# Altium schematic symbol library SamacSys.SchLib: 215 symbols (part 2 of 3)
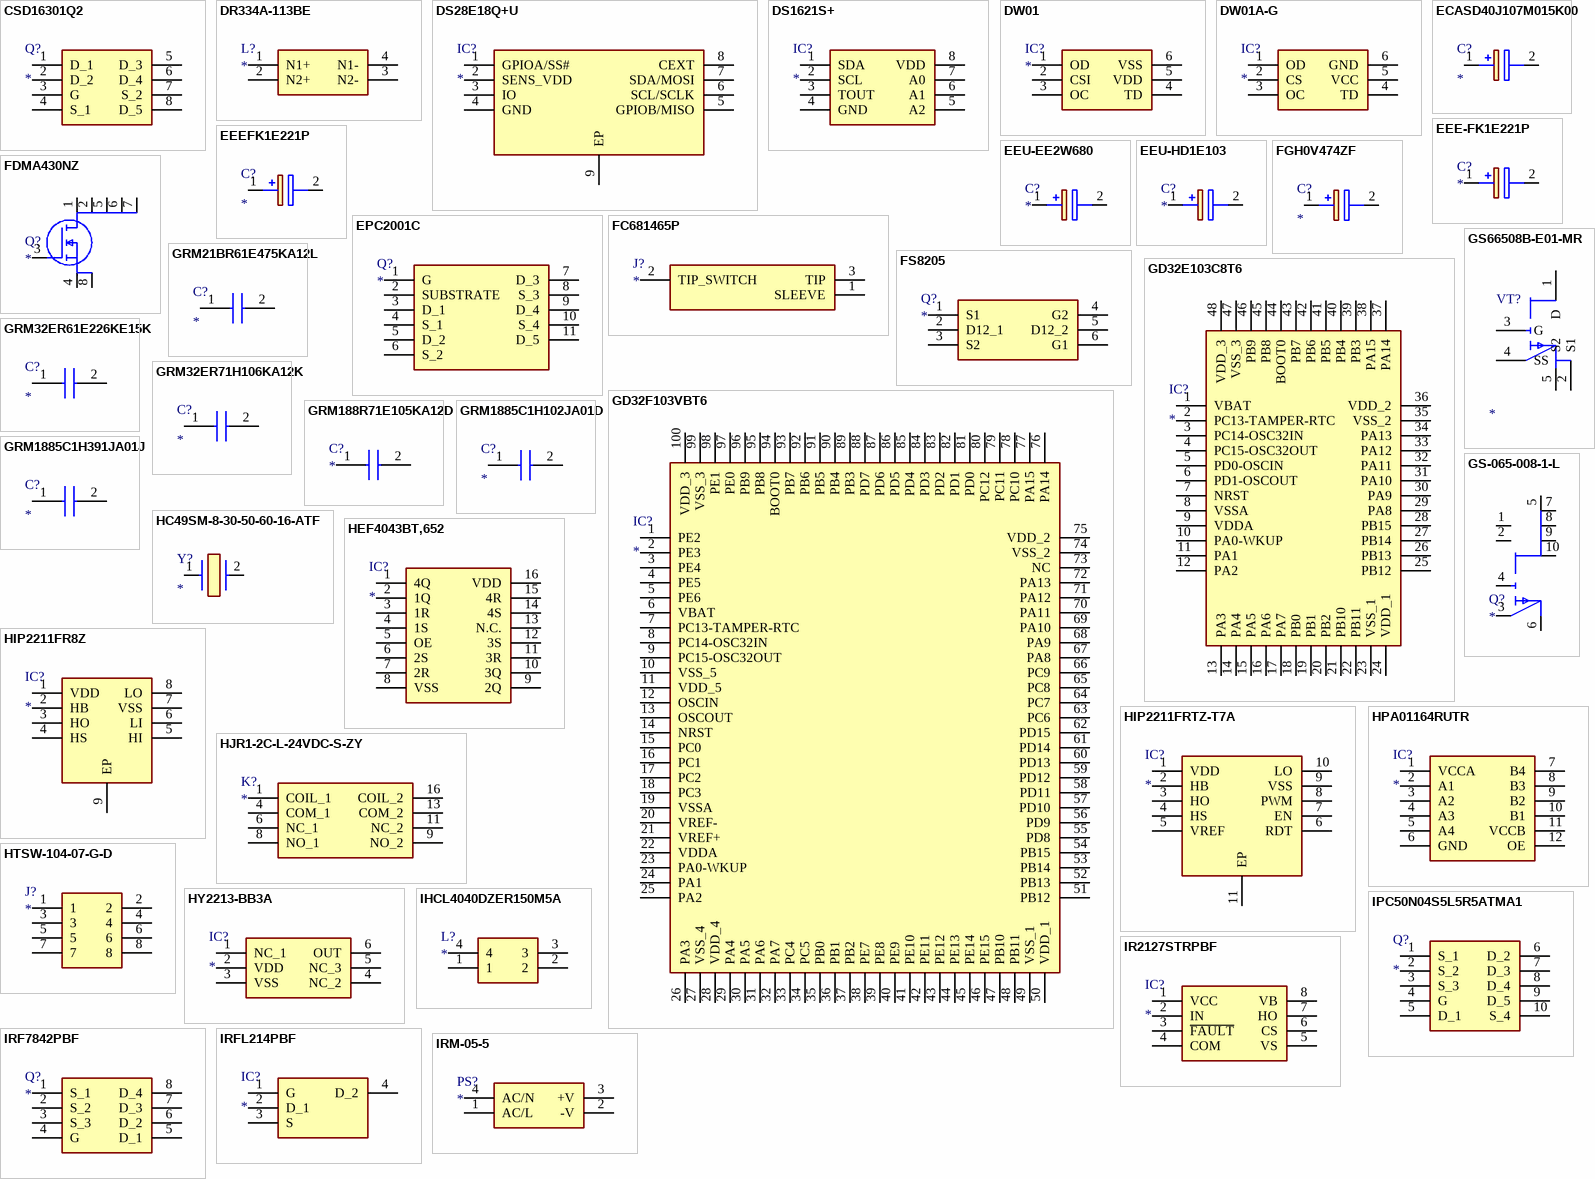
[diagram p6: symbols CSD16301Q2 to IRM-05-5]

## GRM32ER61E226KE15K
designator C?
Capacitor; Manufacturer_Name: Murata Electronics; Manufacturer_Part_Number: GRM32ER61E226KE15K; Datasheet Link: https://datasheet.datasheetarchive.com/originals/distributors/Datasheets_SAMA/ec4f1577dddcc7a13ddad897a28002d3.pdf; Height: 2.7mm; Mouser Part Number: 81-GRM32ER61E226KE5K; Mouser Price/Stock: https://www.mouser.com/Search/Refine.aspx?Keyword=81-GRM32ER61E226KE5K; Arrow Part Number: GRM32ER61E226KE15K; Arrow Price/Stock: https://www.arrow.com/en/products/grm32er61e226ke15k/murata-manufacturing
footprint CAPC3225X270N
pins: 1, 2

## GRM32ER71H106KA12K
designator C?
Capacitor; Manufacturer_Name: Murata Electronics; Manufacturer_Part_Number: GRM32ER71H106KA12K; Height: 2.7mm; Mouser Part Number: N/A; Mouser Price/Stock: https://www.mouser.com/Search/Refine.aspx?Keyword=N%2FA; Arrow Part Number: GRM32ER71H106KA12K; Arrow Price/Stock: https://www.arrow.com/en/products/grm32er71h106ka12k/murata-manufacturing
footprint CAPC3225X270N
pins: 1, 2

## GRM188R71E105KA12D
designator C?
Capacitor; Manufacturer_Name: Murata Electronics; Manufacturer_Part_Number: GRM188R71E105KA12D; Datasheet Link: https://datasheet.datasheetarchive.com/originals/distributors/Datasheets_SAMA/ec4f1577dddcc7a13ddad897a28002d3.pdf; Height: 0.9mm; Mouser Part Number: 81-GRM188R71E105KA2D; Mouser Price/Stock: https://www.mouser.co.uk/ProductDetail/Murata-Electronics/GRM188R71E105KA12D?qs=62qOe8%2Fl8sHaxJyNXtrK%2FQ%3D%3D; Arrow Part Number: GRM188R71E105KA12D; Arrow Price/Stock: https://www.arrow.com/en/products/grm188r71e105ka12d/murata-manufacturing
footprint CAPC1608X90N
pins: 1, 2

## GRM1885C1H102JA01D
designator C?
Capacitor; Manufacturer_Name: Murata Electronics; Manufacturer_Part_Number: GRM1885C1H102JA01D; Datasheet Link: https://psearch.en.murata.com/capacitor/product/GRM1885C1H102JA01%23.html; Height: 0.9mm; Mouser Part Number: 81-GRM39C102J50; Mouser Price/Stock: https://www.mouser.co.uk/ProductDetail/Murata-Electronics/GRM1885C1H102JA01D?qs=H3lwsW1hsDtu9zD8AnV%2FOA%3D%3D; Arrow Part Number: GRM1885C1H102JA01D; Arrow Price/Stock: https://www.arrow.com/en/products/grm1885c1h102ja01d/murata-manufacturing?region=europe
footprint CAPC1608X90N
pins: 1, 2

## GRM1885C1H391JA01J
designator C?
Capacitor; Manufacturer_Name: Murata Electronics; Manufacturer_Part_Number: GRM1885C1H391JA01J; Datasheet Link: https://datasheet.datasheetarchive.com/originals/distributors/Datasheets_SAMA/2201e1ea9d030694a4f88bac2f694b62.pdf; Height: 0.9mm; Mouser Part Number: 81-GRM185C1H391JA01J; Mouser Price/Stock: https://www.mouser.com/Search/Refine.aspx?Keyword=81-GRM185C1H391JA01J; Arrow Part Number: GRM1885C1H391JA01J; Arrow Price/Stock: https://www.arrow.com/en/products/grm1885c1h391ja01j/murata-manufacturing
footprint CAPC1608X90N
pins: 1, 2

## GS66508B-E01-MR
designator VT?
Transistor E-mode GaN (4-Pin); Manufacturer_Name: GaN Systems; Manufacturer_Part_Number: GS66508B-E01-MR; Datasheet Link: https://www.mouser.co.uk/datasheet/2/692/GS66508B-DS-Rev-180213-1314152.pdf; Mouser Part Number: 499-GS66508B-E01-MR; Mouser Price/Stock: https://www.mouser.co.uk/ProductDetail/GaN-Systems/GS66508B-E01-MR?qs=etoTMWSvtH88Sj8NJfVvjg%3D%3D
footprint GS66508BE01MR
pins: 1 D, 2 S1, 3 G, 4 SS, 5 S2

## GS-065-008-1-L
designator Q?
Transistor E-mode GaN (10-Pin); Manufacturer_Name: GaN Systems; Manufacturer_Part_Number: GS-065-008-1-L; Datasheet Link: https://gansystems.com/wp-content/uploads/2021/12/GS-065-008-1-L-DS-Rev-210104.pdf; Mouser Part Number: 499-GS-065-008-1-L; Mouser Price/Stock: https://www.mouser.co.uk/ProductDetail/GaN-Systems/GS-065-008-1-L?qs=2WXlatMagcF2TIzlh%2FwoDw%3D%3D
footprint GS0650081L
pins: 1 NC1, 2 NC2, 3 SS, 4 G, 5 D1, 6 S, 7 D2, 8 D3, 9 D4, 10 D5

## HC49SM-8-30-50-60-16-ATF
designator Y?
Crystal or Oscillator; Manufacturer_Name: MULTICOMP; Manufacturer_Part_Number: HC49SM-8-30-50-60-16-ATF; Datasheet Link: http://www.farnell.com/datasheets/1661828.pdf; Height: 4mm
footprint HC49SM830506016ATF
pins: 1, 2

## HEF4043BT,652
designator IC?
Integrated Circuit; Manufacturer_Name: Nexperia; Manufacturer_Part_Number: HEF4043BT,652; Datasheet Link: https://assets.nexperia.com/documents/data-sheet/HEF4043B.pdf; Height: 1.75mm; Mouser Part Number: 771-HEF4043BT652; Mouser Price/Stock: https://www.mouser.com/Search/Refine.aspx?Keyword=771-HEF4043BT652; Arrow Part Number: HEF4043BT,652; Arrow Price/Stock: https://www.arrow.com/en/products/hef4043bt652/nexperia
footprint SOIC127P600X175-16N
pins: 1 4Q, 2 1Q, 3 1R, 4 1S, 5 OE, 6 2S, 7 2R, 8 VSS, 9 2Q, 10 3Q, 11 3R, 12 3S, 13 N.C., 14 4S, 15 4R, 16 VDD

## HIP2211FR8Z
designator IC?
Integrated Circuit; Manufacturer_Name: Renesas Electronics; Manufacturer_Part_Number: HIP2211FR8Z; Datasheet Link: https://www.renesas.com/us/en/www/doc/datasheet/hip2210-211.pdf; Height: 1mm
footprint SON80P400X400X100-9N
pins: 1 VDD, 2 HB, 3 HO, 4 HS, 5 HI, 6 LI, 7 VSS, 8 LO, 9 EP

## HIP2211FRTZ-T7A
designator IC?
Integrated Circuit; Manufacturer_Name: Renesas Electronics; Manufacturer_Part_Number: HIP2211FRTZ-T7A; Datasheet Link: https://www.renesas.com/us/en/www/doc/datasheet/hip2210-211.pdf; Height: 0.8mm; Mouser Part Number: 968-HIP2211FRTZ-T7A; Mouser Price/Stock: https://www.mouser.co.uk/ProductDetail/Renesas-Intersil/HIP2211FRTZ-T7A/?qs=GedFDFLaBXHyCbSCbcLlDw%3D%3D
footprint SON80P400X400X80-11N
pins: 1 VDD, 2 HB, 3 HO, 4 HS, 5 VREF, 6 RDT, 7 EN, 8 PWM, 9 VSS, 10 LO, 11 EP

## HJR1-2C-L-24VDC-S-ZY
designator K?
Relay or Contactor; Manufacturer_Name: TBO Electronics; Manufacturer_Part_Number: HJR1-2C-L-24VDC-S-ZY; Datasheet Link: https://cdn.ozdisan.com/ETicaret_Dosya/348819_9221222.pdf; Height: 11.8mm
footprint HJR12CL24VDCSZY
pins: 1 COIL_1, 4 COM_1, 6 NC_1, 8 NO_1, 9 NO_2, 11 NC_2, 13 COM_2, 16 COIL_2

## HPA01164RUTR
designator IC?
Integrated Circuit; Manufacturer_Name: Texas Instruments; Manufacturer_Part_Number: HPA01164RUTR; Datasheet Link: http://www.ti.com/lit/ds/symlink/txb0104.pdf; Mouser Part Number: 595-HPA01164RUTR; Mouser Price/Stock: https://www.mouser.com/Search/Refine.aspx?Keyword=595-HPA01164RUTR
footprint HPA01164RUTR
pins: 1 VCCA, 2 A1, 3 A2, 4 A3, 5 A4, 6 GND, 7 B4, 8 B3, 9 B2, 10 B1, 11 VCCB, 12 OE

## HTSW-104-07-G-D
designator J?
Connector; Manufacturer_Name: SAMTEC; Manufacturer_Part_Number: HTSW-104-07-G-D; Datasheet Link: https://componentsearchengine.com/Datasheets/2/HTSW-104-07-G-D.pdf; Height: 8.38mm; Mouser Part Number: 200-HTSW10407GD; Mouser Price/Stock: https://www.mouser.co.uk/ProductDetail/Samtec/HTSW-104-07-G-D?qs=rJnG6vTwR7TyxNcNvyPfLw%3D%3D; Arrow Part Number: HTSW-104-07-G-D; Arrow Price/Stock: https://www.arrow.com/en/products/htsw-104-07-g-d/samtec
footprint HDRV8W64P254_2X4_1016X502X838P
pins: 1, 2, 3, 4, 5, 6, 7, 8

## HY2213-BB3A
designator IC?
Integrated Circuit; Manufacturer_Name: Hycon; Manufacturer_Part_Number: HY2213-BB3A; Datasheet Link: https://datasheet.lcsc.com/szlcsc/HYCON-Tech-HY2213-BB3A_C113632.pdf; Height: 1.4mm
footprint SOT95P280X140-6N
pins: 1 NC_1, 2 VDD, 3 VSS, 4 NC_2, 5 NC_3, 6 OUT

## IHCL4040DZER150M5A
designator L?
Inductor; Manufacturer_Name: Vishay; Manufacturer_Part_Number: IHCL4040DZER150M5A; Datasheet Link: https://componentsearchengine.com/Datasheets/2/IHCL4040DZER150M5A.pdf; Height: 4mm; Mouser Part Number: 71-IHCL4040DZR150M5A; Mouser Price/Stock: https://www.mouser.co.uk/ProductDetail/Vishay-Dale/IHCL4040DZER150M5A?qs=qolwYojYp3SrrzuOoMhJcw%3D%3D; Arrow Part Number: IHCL4040DZER150M5A; Arrow Price/Stock: https://www.arrow.com/en/products/ihcl4040dzer150m5a/vishay
footprint IHCL4040DZER150M5A
pins: 1, 2, 3, 4

## IPC50N04S5L5R5ATMA1
designator Q?
MOSFET (N-Channel); Manufacturer_Name: Infineon; Manufacturer_Part_Number: IPC50N04S5L5R5ATMA1; Datasheet Link: https://www.infineon.com/dgdl/Infineon-IPC50N04S5L-5R5-DS-v01_02-EN.pdf?fileId=5546d46253f65057015419c26dd952ec; Height: 1.1mm; Mouser Part Number: 726-IPC50N04S5L5R5AT; Mouser Price/Stock: https://www.mouser.co.uk/ProductDetail/Infineon-Technologies/IPC50N04S5L5R5ATMA1?qs=Qyx3PVvfm66xhihdkFw%2FPg%3D%3D; Arrow Part Number: IPC50N04S5L5R5ATMA1; Arrow Price/Stock: https://www.arrow.com/en/products/ipc50n04s5l5r5atma1/infineon-technologies-ag
footprint IPC50N04S5L5R5ATMA1
pins: 1 S_1, 2 S_2, 3 S_3, 4 G, 5 D_1, 6 D_2, 7 D_3, 8 D_4, 9 D_5, 10 S_4

## IR2127STRPBF
designator IC?
Integrated Circuit; Manufacturer_Name: Infineon; Manufacturer_Part_Number: IR2127STRPBF; Datasheet Link: https://www.infineon.com/dgdl/Infineon-ir2127-DS-v01_00-EN.pdf?fileId=5546d462533600a4015355c868861696; Height: 1.75mm; Mouser Part Number: 942-IR2127STRPBF; Mouser Price/Stock: https://www.mouser.co.uk/ProductDetail/Infineon-IR/IR2127STRPBF?qs=dQmlx5f5cRI1zkUThsIMgA%3D%3D; Arrow Part Number: IR2127STRPBF; Arrow Price/Stock: https://www.arrow.com/en/products/ir2127strpbf/infineon-technologies-ag?region=europe
footprint SOIC127P600X175-8N
pins: 1 VCC, 2 IN, 3 ~{FAULT}, 4 COM, 5 VS, 6 CS, 7 HO, 8 VB

## IRF7842PBF
designator Q?
Transistor; Manufacturer_Name: Infineon; Manufacturer_Part_Number: IRF7842PBF; Datasheet Link: https://componentsearchengine.com/Datasheets/2/IRF7842PBF.pdf; Height: 1.75mm; Mouser Part Number: 942-IRF7842PBF; Mouser Price/Stock: https://www.mouser.com/Search/Refine.aspx?Keyword=942-IRF7842PBF; Arrow Part Number: IRF7842PBF; Arrow Price/Stock: https://www.arrow.com/en/products/irf7842pbf/infineon-technologies-ag
footprint SOIC127P600X175-8N
pins: 1 S_1, 2 S_2, 3 S_3, 4 G, 5 D_1, 6 D_2, 7 D_3, 8 D_4

## IRFL214PBF
designator IC?
Integrated Circuit; Manufacturer_Name: Vishay; Manufacturer_Part_Number: IRFL214PBF; Datasheet Link: http://www.vishay.com/docs/91194/sihfl214.pdf; Height: 1.8mm; Mouser Part Number: 844-IRFL214PBF; Mouser Price/Stock: https://www.mouser.com/Search/Refine.aspx?Keyword=844-IRFL214PBF
footprint SOT230P700X180-4N
pins: 1 G, 2 D_1, 3 S, 4 D_2

## IRM-05-5
designator PS?
Power Supply; Manufacturer_Name: Mean Well; Manufacturer_Part_Number: IRM-05-5; Datasheet Link: https://www.mouser.fr/datasheet/2/260/r1936_3-1109422.pdf; Height: 21.5mm; Mouser Part Number: 709-IRM05-5; Mouser Price/Stock: https://www.mouser.co.uk/ProductDetail/MEAN-WELL/IRM-05-5?qs=WkdRfq4wf1OdYoHS8Am9VA%3D%3D; Arrow Part Number: IRM-05-5; Arrow Price/Stock: https://www.arrow.com/en/products/irm-05-5/mean-well-enterprises?region=europe
footprint IRM055
pins: 1 AC/L, 2 -V, 3 +V, 4 AC/N

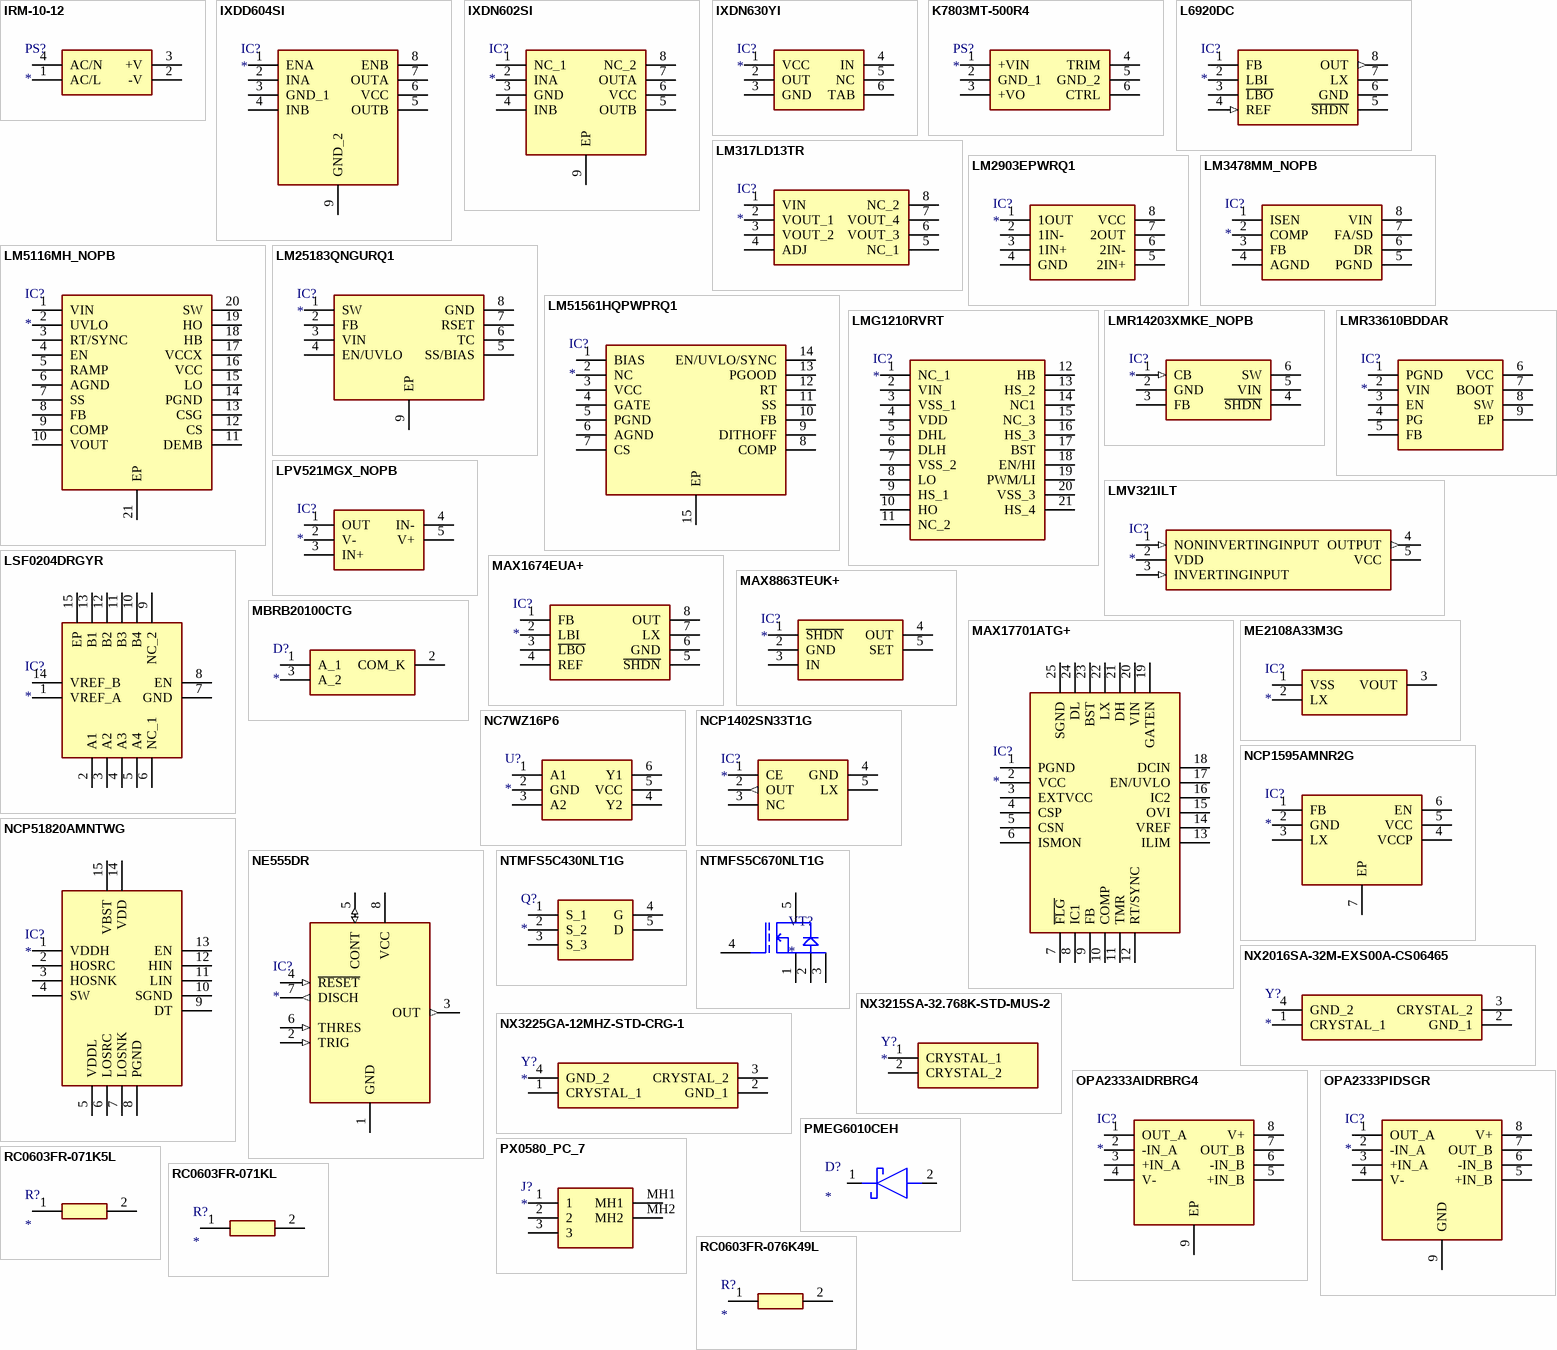
[diagram p3: symbols IRM-10-12 to RC0603FR-076K49L]

## IRM-10-12
designator PS?
Power Supply; Manufacturer_Name: Mean Well; Manufacturer_Part_Number: IRM-10-12; Datasheet Link: https://www.meanwellusa.com/webapp/product/search.aspx?prod=IRM-10; Mouser Part Number: 709-IRM10-12; Mouser Price/Stock: https://www.mouser.co.uk/ProductDetail/MEAN-WELL/IRM-10-12?qs=WkdRfq4wf1Mps3oD7xn11w%3D%3D; Arrow Part Number: IRM-10-12; Arrow Price/Stock: https://www.arrow.com/en/products/irm-10-12/mean-well-enterprises?region=europe
footprint IRM-10
pins: 1 AC/L, 2 -V, 3 +V, 4 AC/N

## IXDD604SI
designator IC?
Integrated Circuit; Manufacturer_Name: LITTELFUSE; Manufacturer_Part_Number: IXDD604SI; Datasheet Link: http://www.ixysic.com/home/pdfs.nsf/www/IXD_604.pdf/$file/IXD_604.pdf; Height: 1.7mm; Mouser Part Number: 849-IXDD604SI; Mouser Price/Stock: https://www.mouser.co.uk/ProductDetail/IXYS-Integrated-Circuits/IXDD604SI?qs=RF%252Bx3zajg8Jsl1%252BOkSun%252BQ%3D%3D; Arrow Part Number: IXDD604SI; Arrow Price/Stock: https://www.arrow.com/en/products/ixdd604si/littelfuse?region=nac
footprint SOIC127P600X170-9N
pins: 1 ENA, 2 INA, 3 GND_1, 4 INB, 5 OUTB, 6 VCC, 7 OUTA, 8 ENB, 9 GND_2

## IXDN602SI
designator IC?
Integrated Circuit; Manufacturer_Name: IXYS SEMICONDUCTOR; Manufacturer_Part_Number: IXDN602SI; Datasheet Link: http://www.ixysic.com/home/pdfs.nsf/www/IXD_602.pdf/$file/IXD_602.pdf; Height: 1.422mm; Mouser Part Number: 849-IXDN602SI; Mouser Price/Stock: https://www.mouser.co.uk/ProductDetail/IXYS-Integrated-Circuits/IXDN602SI?qs=8uBHJDVwVqxXUMGEn1skDg%3D%3D; Arrow Part Number: IXDN602SI; Arrow Price/Stock: https://www.arrow.com/en/products/ixdn602si/ixys
footprint SOP140P599X142-9N
pins: 1 NC_1, 2 INA, 3 GND, 4 INB, 5 OUTB, 6 VCC, 7 OUTA, 8 NC_2, 9 EP

## IXDN630YI
designator IC?
Integrated Circuit; Manufacturer_Name: IXYS SEMICONDUCTOR; Manufacturer_Part_Number: IXDN630YI; Datasheet Link: https://www.mouser.com/datasheet/2/240/IXD_630-1545995.pdf; Mouser Part Number: 849-IXDN630YI; Mouser Price/Stock: https://www.mouser.co.uk/ProductDetail/IXYS-Integrated-Circuits/IXDN630YI?qs=uhAJVUz%252BE3%2FH75bq1SGVng%3D%3D; Arrow Part Number: IXDN630YI; Arrow Price/Stock: https://www.arrow.com/en/products/ixdn630yi/ixys
footprint 5-LEAD_TO-263
pins: 1 VCC, 2 OUT, 3 GND, 4 IN, 5 NC, 6 TAB

## K7803MT-500R4
designator PS?
Power Supply; Manufacturer_Name: Mornsun Power; Manufacturer_Part_Number: K7803MT-500R4; Datasheet Link: https://www.mornsun-power.com/html/pdf/K7803MT-500R4.html; Height: 3.35mm
footprint K7803MT500R4
pins: 1 +VIN, 2 GND_1, 3 +VO, 4 TRIM, 5 GND_2, 6 CTRL

## L6920DC
designator IC?
Integrated Circuit; Manufacturer_Name: STMicroelectronics; Manufacturer_Part_Number: L6920DC; Datasheet Link: http://www.st.com/st-web-ui/static/active/en/resource/technical/document/datasheet/CD00120294.pdf; Height: 1.1mm; Mouser Part Number: 511-L6920DC; Mouser Price/Stock: https://www.mouser.com/Search/Refine.aspx?Keyword=511-L6920DC
footprint SOP65P490X110-8N
pins: 1 FB, 2 LBI, 3 ~{LBO}, 4 REF (in), 5 ~{SHDN}, 6 GND (power), 7 LX, 8 OUT (out)

## LM317LD13TR
designator IC?
Integrated Circuit; Manufacturer_Name: STMicroelectronics; Manufacturer_Part_Number: LM317LD13TR; Datasheet Link: http://www.st.com/st-web-ui/static/active/en/resource/technical/document/datasheet/CD00000469.pdf; Height: 1.75mm; Mouser Part Number: 511-LM317LD13TR; Mouser Price/Stock: https://www.mouser.co.uk/ProductDetail/STMicroelectronics/LM317LD13TR?qs=01cQMEOqxGSoMXHqAObrAA%3D%3D; Arrow Part Number: LM317LD13TR; Arrow Price/Stock: https://www.arrow.com/en/products/lm317ld13tr/stmicroelectronics
footprint SOIC127P600X175-8N
pins: 1 VIN, 2 VOUT_1, 3 VOUT_2, 4 ADJ, 5 NC_1, 6 VOUT_3, 7 VOUT_4, 8 NC_2

## LM2903EPWRQ1
designator IC?
Integrated Circuit; Manufacturer_Name: Texas Instruments; Manufacturer_Part_Number: LM2903EPWRQ1; Datasheet Link: http://www.ti.com/lit/gpn/LM2903-Q1; Height: 1.2mm; Mouser Part Number: 595-LM2903EPWRQ1; Mouser Price/Stock: https://www.mouser.co.uk/ProductDetail/Texas-Instruments/LM2903EPWRQ1?qs=gTYE2QTfZfSOOljfli3%2Fvg%3D%3D; Arrow Part Number: LM2903EPWRQ1; Arrow Price/Stock: https://www.arrow.com/en/products/lm2903epwrq1/texas-instruments
footprint SOP65P640X120-8N
pins: 1 1OUT, 2 1IN-, 3 1IN+, 4 GND, 5 2IN+, 6 2IN-, 7 2OUT, 8 VCC

## LM3478MM_NOPB
designator IC?
Integrated Circuit; Manufacturer_Name: Texas Instruments; Manufacturer_Part_Number: LM3478MM/NOPB; Datasheet Link: http://www.ti.com/lit/ds/symlink/lm3478.pdf; Height: 1.1mm; Mouser Part Number: 926-LM3478MM/NOPB; Mouser Price/Stock: https://www.mouser.co.uk/ProductDetail/Texas-Instruments/LM3478MM-NOPB?qs=X1J7HmVL2ZFZ9Nx5j0bAJQ%3D%3D; Arrow Part Number: LM3478MM/NOPB; Arrow Price/Stock: https://www.arrow.com/en/products/lm3478mmnopb/texas-instruments?region=nac
footprint SOP65P490X110-8N
pins: 1 ISEN, 2 COMP, 3 FB, 4 AGND, 5 PGND, 6 DR, 7 FA/SD, 8 VIN

## LM5116MH_NOPB
designator IC?
Integrated Circuit; Manufacturer_Name: Texas Instruments; Manufacturer_Part_Number: LM5116MH/NOPB; Datasheet Link: http://www.ti.com/lit/ds/symlink/lm5116.pdf; Height: 1.1mm; Mouser Part Number: 926-LM5116MH/NOPB; Mouser Price/Stock: https://www.mouser.co.uk/ProductDetail/Texas-Instruments/LM5116MH-NOPB?qs=QbsRYf82W3Gc%2FVeEKgyaCw%3D%3D; Arrow Part Number: LM5116MH/NOPB; Arrow Price/Stock: https://www.arrow.com/en/products/lm5116mhnopb/texas-instruments?region=nac
footprint SOP65P640X110-21N
pins: 1 VIN, 2 UVLO, 3 RT/SYNC, 4 EN, 5 RAMP, 6 AGND, 7 SS, 8 FB, 9 COMP, 10 VOUT, 11 DEMB, 12 CS, 13 CSG, 14 PGND, 15 LO, 16 VCC, 17 VCCX, 18 HB, 19 HO, 20 SW, 21 EP

## LM25183QNGURQ1
designator IC?
Integrated Circuit; Manufacturer_Name: Texas Instruments; Manufacturer_Part_Number: LM25183QNGURQ1; Datasheet Link: https://www.ti.com/lit/ds/symlink/lm25183-q1.pdf?ts=1601923557129&ref_url=https%253A%252F%252Fwww.ti.com%252Fstore%252Fti%252Fen%252Fp%252Fproduct%252F%253Fp%253DLM25183QNGURQ1%2526keyMatch%253DLM25183QNGURQ1%2526tisearch%253DSearch-EN-everything%2526usec; Height: 0.8mm; Mouser Part Number: 595-LM25183QNGURQ1; Mouser Price/Stock: https://www.mouser.co.uk/ProductDetail/Texas-Instruments/LM25183QNGURQ1?qs=DPoM0jnrROXQGqS1LtP5UA%3D%3D
footprint SON80P400X400X80-9N
pins: 1 SW, 2 FB, 3 VIN, 4 EN/UVLO, 5 SS/BIAS, 6 TC, 7 RSET, 8 GND, 9 EP

## LM51561HQPWPRQ1
designator IC?
Integrated Circuit; Manufacturer_Name: Texas Instruments; Manufacturer_Part_Number: LM51561HQPWPRQ1; Datasheet Link: https://www.ti.com/lit/ds/symlink/lm51561h-q1.pdf?ts=1627804553819&ref_url=https%253A%252F%252Fwww.ti.com%252Fstore%252Fti%252Fen%252Fp%252Fproduct%252F%253Fp%253DLM51561HQPWPRQ1; Height: 1.2mm; Mouser Part Number: 595-LM51561HQPWPRQ1; Mouser Price/Stock: https://www.mouser.co.uk/ProductDetail/Texas-Instruments/LM51561HQPWPRQ1?qs=zW32dvEIR3vSrITqODfvSg%3D%3D; Arrow Part Number: LM51561HQPWPRQ1; Arrow Price/Stock: https://www.arrow.com/en/products/lm51561hqpwprq1/texas-instruments?region=nac
footprint SOP65P640X120-15N
pins: 1 BIAS, 2 NC, 3 VCC, 4 GATE, 5 PGND, 6 AGND, 7 CS, 8 COMP, 9 DITHOFF, 10 FB, 11 SS, 12 RT, 13 PGOOD, 14 EN/UVLO/SYNC, 15 EP

## LMG1210RVRT
designator IC?
Integrated Circuit; Manufacturer_Name: Texas Instruments; Manufacturer_Part_Number: LMG1210RVRT; Datasheet Link: http://www.ti.com/lit/gpn/LMG1210; Height: 0.8mm; Mouser Part Number: 595-LMG1210RVRT; Mouser Price/Stock: https://www.mouser.co.uk/ProductDetail/Texas-Instruments/LMG1210RVRT?qs=r5DSvlrkXmKq4J8w4KI4bg%3D%3D; Arrow Part Number: LMG1210RVRT; Arrow Price/Stock: https://www.arrow.com/en/products/lmg1210rvrt/texas-instruments?region=nac
footprint LMG1210RVRT
pins: 1 NC_1, 2 VIN, 3 VSS_1, 4 VDD, 5 DHL, 6 DLH, 7 VSS_2, 8 LO, 9 HS_1, 10 HO, 11 NC_2, 12 HB, 13 HS_2, 14 NC1, 15 NC_3, 16 HS_3, 17 BST, 18 EN/HI, 19 PWM/LI, 20 VSS_3, 21 HS_4

## LMR14203XMKE_NOPB
designator IC?
Integrated Circuit; Manufacturer_Name: Texas Instruments; Manufacturer_Part_Number: LMR14203XMKE/NOPB; Datasheet Link: http://www.ti.com/lit/gpn/lmr14203; Height: 1.1mm; Mouser Part Number: 926-LMR14203XMKENOPB; Mouser Price/Stock: https://www.mouser.co.uk/ProductDetail/Texas-Instruments/LMR14203XMKE-NOPB?qs=cN01o9PeIQuKBDZtJ0QeWA%3D%3D; Arrow Part Number: LMR14203XMKE/NOPB; Arrow Price/Stock: https://www.arrow.com/en/products/lmr14203xmkenopb/texas-instruments
footprint SOT95P280X110-6N
pins: 1 CB (in), 2 GND (power), 3 FB, 4 ~{SHDN}, 5 VIN (power), 6 SW

## LMR33610BDDAR
designator IC?
Integrated Circuit; Manufacturer_Name: Texas Instruments; Manufacturer_Part_Number: LMR33610BDDAR; Datasheet Link: https://www.ti.com/lit/gpn/LMR33610; Height: 1.7mm; Mouser Part Number: 595-LMR33610BDDAR; Mouser Price/Stock: https://www.mouser.co.uk/ProductDetail/Texas-Instruments/LMR33610BDDAR?qs=wnTfsH77Xs6yzLYKQ10pfw%3D%3D; Arrow Part Number: LMR33610BDDAR; Arrow Price/Stock: https://www.arrow.com/en/products/lmr33610bddar/texas-instruments
footprint LMR33610BDDAR
pins: 1 PGND, 2 VIN, 3 EN, 4 PG, 5 FB, 6 VCC, 7 BOOT, 8 SW, 9 EP

## LMV321ILT
designator IC?
Integrated Circuit; Manufacturer_Name: STMicroelectronics; Manufacturer_Part_Number: LMV321ILT; Datasheet Link: http://www.st.com/st-web-ui/static/active/en/resource/technical/document/datasheet/CD00079372.pdf; Height: 1.45mm; Mouser Part Number: 511-LMV321ILT; Mouser Price/Stock: https://www.mouser.co.uk/ProductDetail/STMicroelectronics/LMV321ILT?qs=6ARB0lp6jlUPlQwkE%252B5xUw%3D%3D; Arrow Part Number: LMV321ILT; Arrow Price/Stock: https://www.arrow.com/en/products/lmv321ilt/stmicroelectronics?region=nac
footprint SOT95P280X145-5N
pins: 1 NONINVERTINGINPUT (in), 2 VDD (power), 3 INVERTINGINPUT (in), 4 OUTPUT (out), 5 VCC (power)

## LPV521MGX_NOPB
designator IC?
Integrated Circuit; Manufacturer_Name: Texas Instruments; Manufacturer_Part_Number: LPV521MGX/NOPB; Datasheet Link: http://www.ti.com/lit/gpn/LPV521; Height: 1.1mm; Mouser Part Number: 926-LPV521MGX/NOPB; Mouser Price/Stock: https://www.mouser.co.uk/ProductDetail/Texas-Instruments/LPV521MGX-NOPB?qs=8uBHJDVwVqxH81GL5WnlwA%3D%3D; Arrow Part Number: LPV521MGX/NOPB; Arrow Price/Stock: https://www.arrow.com/en/products/lpv521mgxnopb/texas-instruments
footprint SOT65P210X110-5N
pins: 1 OUT, 2 V-, 3 IN+, 4 IN-, 5 V+

## LSF0204DRGYR
designator IC?
Integrated Circuit; Manufacturer_Name: Texas Instruments; Manufacturer_Part_Number: LSF0204DRGYR; Datasheet Link: https://www.arrow.com/en/products/lsf0204drgyr/texas-instruments?region=nac; Height: 1mm; Mouser Part Number: 595-LSF0204DRGYR; Mouser Price/Stock: https://www.mouser.co.uk/ProductDetail/Texas-Instruments/LSF0204DRGYR?qs=ADSrZYdIRCd1tgAmsbuueA%3D%3D; Arrow Part Number: LSF0204DRGYR; Arrow Price/Stock: https://www.arrow.com/en/products/lsf0204drgyr/texas-instruments?region=nac
footprint LSF0204DRGYR
pins: 1 VREF_A, 2 A1, 3 A2, 4 A3, 5 A4, 6 NC_1, 7 GND, 8 EN, 9 NC_2, 10 B4, 11 B3, 12 B2, 13 B1, 14 VREF_B, 15 EP

## MAX1674EUA+
designator IC?
Integrated Circuit; Manufacturer_Name: Maxim Integrated; Manufacturer_Part_Number: MAX1674EUA+; Datasheet Link: http://datasheets.maximintegrated.com/en/ds/MAX1674-MAX1676.pdf; Height: 1.1mm; Mouser Part Number: 700-MAX1674EUA; Mouser Price/Stock: https://www.mouser.co.uk/ProductDetail/Maxim-Integrated/MAX1674EUA%2b?qs=1THa7WoU59GY64t78nI87w%3D%3D
footprint SOP65P490X110-8N
pins: 1 FB, 2 LBI, 3 ~{LBO}, 4 REF, 5 ~{SHDN}, 6 GND, 7 LX, 8 OUT

## MAX8863TEUK+
designator IC?
Integrated Circuit; Manufacturer_Name: Maxim Integrated; Manufacturer_Part_Number: MAX8863TEUK+; Datasheet Link: https://pdfserv.maximintegrated.com/en/ds/MAX8863-MAX8864T.pdf; Height: 1.45mm
footprint SOT95P280X145-5N
pins: 1 ~{SHDN}, 2 GND, 3 IN, 4 OUT, 5 SET

## MAX17701ATG+
designator IC?
Integrated Circuit; Manufacturer_Name: Maxim Integrated; Manufacturer_Part_Number: MAX17701ATG+; Datasheet Link: https://eu.mouser.com/datasheet/2/256/MAX17701-1888136.pdf; Height: 0.8mm; Mouser Part Number: 700-MAX17701ATG+; Mouser Price/Stock: https://www.mouser.co.uk/ProductDetail/Maxim-Integrated/MAX17701ATG%2b?qs=W%2FMpXkg%252BdQ4lZ0yRy8rVtg%3D%3D
footprint QFN50P400X400X80-25N-D
pins: 1 PGND, 2 VCC, 3 EXTVCC, 4 CSP, 5 CSN, 6 ISMON, 7 ~{FLG}, 8 IC1, 9 FB, 10 COMP, 11 TMR, 12 RT/SYNC, 13 ILIM, 14 VREF, 15 OVI, 16 IC2, 17 EN/UVLO, 18 DCIN, 19 GATEN, 20 VIN, 21 DH, 22 LX, 23 BST, 24 DL, 25 SGND

## MBRB20100CTG
designator D?
Schottky Diode; Manufacturer_Name: onsemi; Manufacturer_Part_Number: MBRB20100CTG; Datasheet Link: http://www.onsemi.com/pub/Collateral/MBRB20100CT-D.PDF; Height: 4.83mm; Mouser Part Number: 863-MBRB20100CTG; Mouser Price/Stock: https://www.mouser.co.uk/ProductDetail/onsemi/MBRB20100CTG?qs=3JMERSakebpW8vIjCwcMvg%3D%3D; Arrow Part Number: MBRB20100CTG; Arrow Price/Stock: https://www.arrow.com/en/products/mbrb20100ctg/on-semiconductor?region=nac
footprint MBRB20100CTG
pins: 1 A_1, 2 COM_K, 3 A_2

## ME2108A33M3G
designator IC?
Integrated Circuit; Manufacturer_Name: Microne; Manufacturer_Part_Number: ME2108A33M3G; Datasheet Link: https://datasheet.lcsc.com/szlcsc/Nanjing-Micro-One-Elec-ME2108A50M3G_C14839.pdf; Height: 1.3mm
footprint SOT95P250X130-3N
pins: 1 VSS, 2 LX, 3 VOUT

## NC7WZ16P6
designator U?
Undefined or Miscellaneous; Manufacturer_Name: onsemi; Manufacturer_Part_Number: NC7WZ16P6; Datasheet Link: https://componentsearchengine.com/Datasheets/2/NC7WZ16P6.pdf; Height: 1.1mm; Mouser Part Number: 512-NC7WZ16P6; Mouser Price/Stock: https://www.mouser.co.uk/ProductDetail/ON-Semiconductor-Fairchild/NC7WZ16P6?qs=RjNHq7A%252BoBzG5CheP4sIbg%3D%3D; Arrow Part Number: NC7WZ16P6; Arrow Price/Stock: https://www.arrow.com/en/products/nc7wz16p6/on-semiconductor
footprint SOT65P210X110-6N
pins: 1 A1, 2 GND, 3 A2, 4 Y2, 5 VCC, 6 Y1

## NCP1402SN33T1G
designator IC?
Integrated Circuit; Manufacturer_Name: onsemi; Manufacturer_Part_Number: NCP1402SN33T1G; Datasheet Link: http://www.onsemi.com/pub/Collateral/NCP1402-D.PDF; Height: 1.1mm; Mouser Part Number: 863-NCP1402SN33T1G; Mouser Price/Stock: https://www.mouser.co.uk/ProductDetail/ON-Semiconductor/NCP1402SN33T1G/?qs=%2FugrpAKHX8pzePTwSFnanA%3D%3D; Arrow Part Number: NCP1402SN33T1G; Arrow Price/Stock: https://www.arrow.com/en/products/ncp1402sn33t1g/on-semiconductor
footprint SOT95P275X110-5N
pins: 1 CE, 2 OUT (out), 3 NC, 4 GND (power), 5 LX

## NCP1595AMNR2G
designator IC?
Integrated Circuit; Manufacturer_Name: onsemi; Manufacturer_Part_Number: NCP1595AMNR2G; Datasheet Link: http://www.onsemi.com/pub/Collateral/NCP1595-D.PDF; Height: 1mm; Mouser Part Number: 863-NCP1595AMNR2G; Mouser Price/Stock: https://www.mouser.co.uk/ProductDetail/onsemi/NCP1595AMNR2G?qs=OSf9jACorvbR4V0klhSMiQ%3D%3D; Arrow Part Number: NCP1595AMNR2G; Arrow Price/Stock: https://www.arrow.com/en/products/ncp1595amnr2g/on-semiconductor
footprint SON95P300X300X100-7N
pins: 1 FB, 2 GND, 3 LX, 4 VCCP, 5 VCC, 6 EN, 7 EP

## NCP51820AMNTWG
designator IC?
Integrated Circuit; Manufacturer_Name: onsemi; Manufacturer_Part_Number: NCP51820AMNTWG; Datasheet Link: https://www.onsemi.com/pub/Collateral/NCP51820-D.PDF; Height: 0.85mm; Mouser Part Number: 863-NCP51820AMNTWG; Mouser Price/Stock: https://www.mouser.co.uk/ProductDetail/onsemi/NCP51820AMNTWG?qs=XeJtXLiO41TL02hy5e%252B%252BkA%3D%3D; Arrow Part Number: NCP51820AMNTWG; Arrow Price/Stock: https://www.arrow.com/en/products/ncp51820amntwg/on-semiconductor?region=nac
footprint NCP51820AMNTWG
pins: 1 VDDH, 2 HOSRC, 3 HOSNK, 4 SW, 5 VDDL, 6 LOSRC, 7 LOSNK, 8 PGND, 9 DT, 10 SGND, 11 LIN, 12 HIN, 13 EN, 14 VDD, 15 VBST

## NE555DR
designator IC?
Integrated Circuit; Manufacturer_Name: Texas Instruments; Manufacturer_Part_Number: NE555DR; Datasheet Link: http://www.ti.com/lit/ds/symlink/ne555.pdf; Height: 1.75mm; Mouser Part Number: 595-NE555DR; Mouser Price/Stock: https://www.mouser.com/Search/Refine.aspx?Keyword=595-NE555DR; RS Part Number: 1218414; RS Price/Stock: http://uk.rs-online.com/web/p/products/1218414
footprint SOIC127P600X175-8N
pins: 1 GND (power), 2 TRIG (in), 3 OUT (out), 4 ~{RESET} (in), 5 CONT (io), 6 THRES (in), 7 DISCH (out), 8 VCC (power)

## NTMFS5C430NLT1G
designator Q?
MOSFET (N-Channel); Manufacturer_Name: onsemi; Manufacturer_Part_Number: NTMFS5C430NLT1G; Datasheet Link: https://www.onsemi.com/pub/Collateral/NTMFS5C430NL-D.PDF; Mouser Part Number: 863-NTMFS5C430NLT1G; Mouser Price/Stock: https://www.mouser.co.uk/ProductDetail/onsemi/NTMFS5C430NLT1G?qs=raqtESnDWsBgV0Rq1XpCKg%3D%3D; Arrow Part Number: NTMFS5C430NLT1G; Arrow Price/Stock: https://www.arrow.com/en/products/ntmfs5c430nlt1g/on-semiconductor?region=nac
footprint NRVTS10100EMFST1G
pins: 1 S_1, 2 S_2, 3 S_3, 4 G, 5 D

## NTMFS5C670NLT1G
designator VT?
MOSFET (N-Channel); Manufacturer_Name: onsemi; Manufacturer_Part_Number: NTMFS5C670NLT1G; Datasheet Link: https://www.onsemi.com/pub/Collateral/NTMFS5C673NL-D.PDF; Mouser Part Number: 863-NTMFS5C670NLT1G; Mouser Price/Stock: https://www.mouser.co.uk/ProductDetail/onsemi/NTMFS5C670NLT1G?qs=85c0ukccmxF7%2F53ox6Y1og%3D%3D; Arrow Part Number: NTMFS5C670NLT1G; Arrow Price/Stock: https://www.arrow.com/en/products/ntmfs5c670nlt1g/on-semiconductor?region=nac
footprint NRVTS10100EMFST1G
pins: 1, 2, 3, 4, 5

## NX2016SA-32M-EXS00A-CS06465
designator Y?
Crystal or Oscillator; Manufacturer_Name: NDK; Manufacturer_Part_Number: NX2016SA-32M-EXS00A-CS06465; Datasheet Link: http://www.ndk.com/images/products/catalog/c_NX2016SA_e.pdf; Height: 0.5mm; Mouser Part Number: 344-NX2016SA32S06465; Mouser Price/Stock: https://www.mouser.co.uk/ProductDetail/NDK/NX2016SA-32M-EXS00A-CS06465?qs=w%2Fv1CP2dgqr82b0JjRnv4A%3D%3D
footprint NX2016SA32MEXS00ACS06465
pins: 1 CRYSTAL_1, 2 GND_1, 3 CRYSTAL_2, 4 GND_2

## NX3215SA-32.768K-STD-MUS-2
designator Y?
Crystal or Oscillator; Manufacturer_Name: Nihon Dempa Kogyo Co.; Manufacturer_Part_Number: NX3215SA-32.768K-STD-MUS-2; Datasheet Link: https://www.arrow.com/en/products/nx3215sa32.768kstdmus2/ndk; Height: 0.9mm; Arrow Part Number: NX3215SA-32.768K-STD-MUS-2; Arrow Price/Stock: https://www.arrow.com/en/products/nx3215sa32.768kstdmus2/ndk
footprint NX3215SA32768KSTDMUS2
pins: 1 CRYSTAL_1, 2 CRYSTAL_2

## NX3225GA-12MHZ-STD-CRG-1
designator Y?
Crystal or Oscillator; Manufacturer_Name: NDK; Manufacturer_Part_Number: NX3225GA-12MHZ-STD-CRG-1; Datasheet Link: https://datasheet.datasheetarchive.com/originals/distributors/DKDS-17/332076.pdf; Height: 0.9mm; Mouser Part Number: 344-NX3225GA12STCRG1; Mouser Price/Stock: https://www.mouser.co.uk/ProductDetail/NDK/NX3225GA-12MHZ-STD-CRG-1?qs=w%2Fv1CP2dgqoOP7U1AUUQDw%3D%3D
footprint NX3225GA12MHZSTDCRG1
pins: 1 CRYSTAL_1, 2 GND_1, 3 CRYSTAL_2, 4 GND_2

## OPA2333AIDRBRG4
designator IC?
Integrated Circuit; Manufacturer_Name: Texas Instruments; Manufacturer_Part_Number: OPA2333AIDRBRG4; Datasheet Link: https://www.arrow.com/en/products/opa2333aidrbrg4/texas-instruments; Height: 1mm; Arrow Part Number: OPA2333AIDRBRG4; Arrow Price/Stock: https://www.arrow.com/en/products/opa2333aidrbrg4/texas-instruments
footprint SON65P300X300X100-9N-D
pins: 1 OUT_A, 2 -IN_A, 3 +IN_A, 4 V-, 5 +IN_B, 6 -IN_B, 7 OUT_B, 8 V+, 9 EP

## OPA2333PIDSGR
designator IC?
Integrated Circuit; Manufacturer_Name: Texas Instruments; Manufacturer_Part_Number: OPA2333PIDSGR; Datasheet Link: http://www.ti.com/lit/gpn/opa2333p; Height: 0.8mm; Mouser Part Number: 595-OPA2333PIDSGR; Mouser Price/Stock: https://www.mouser.co.uk/ProductDetail/Texas-Instruments/OPA2333PIDSGR?qs=j%252B1pi9TdxUbYgr0Zk%252B12GQ%3D%3D; Arrow Part Number: OPA2333PIDSGR; Arrow Price/Stock: https://www.arrow.com/en/products/opa2333pidsgr/texas-instruments?region=nac
footprint SON50P200X200X80-9N
pins: 1 OUT_A, 2 -IN_A, 3 +IN_A, 4 V-, 5 +IN_B, 6 -IN_B, 7 OUT_B, 8 V+, 9 GND

## PMEG6010CEH
designator D?
Schottky Diode; Manufacturer_Name: Nexperia; Manufacturer_Part_Number: PMEG6010CEH; Datasheet Link: https://datasheet.datasheetarchive.com/originals/distributors/SFDatasheet-4/sf-00082348.pdf; Height: 1.2mm; Mouser Part Number: N/A; Mouser Price/Stock: https://www.mouser.co.uk/ProductDetail/Nexperia/PMEG6010CEH?qs=vHuUswq2%252BszOFfcKXIx8SQ%3D%3D
footprint SOD3516X120N
pins: 1 K, 2 A

## PX0580_PC_7
designator J?
Connector; Manufacturer_Name: Bulgin; Manufacturer_Part_Number: PX0580/PC/7; Datasheet Link: https://www.mouser.com/datasheet/2/57/Bulgin_2010_p78-2418.pdf; Height: 32.1mm; Mouser Part Number: 161-PX0580/PC/7; Mouser Price/Stock: https://www.mouser.co.uk/ProductDetail/Bulgin/PX0580-PC-7?qs=klolToFEUMWWlLomjsP3SQ%3D%3D; Arrow Part Number: PX0580/PC/7; Arrow Price/Stock: https://www.arrow.com/en/products/px0580pc7/bulgin-components-plc?region=nac
footprint PX0580PC7
pins: 1, 2, 3, MH1, MH2

## RC0603FR-071K5L
designator R?
Resistor; Manufacturer_Name: YAGEO (PHYCOMP); Manufacturer_Part_Number: RC0603FR-071K5L; Datasheet Link: https://datasheet.datasheetarchive.com/originals/distributors/Datasheets_SAMA/902f9e387b938f871d31120f5fc1d65e.pdf; Height: 0.55mm; Mouser Part Number: 603-RC0603FR-071K5L; Mouser Price/Stock: https://www.mouser.co.uk/ProductDetail/YAGEO/RC0603FR-071K5L?qs=VU8sRB4EgwBMt9nc4XGNgA%3D%3D; Arrow Part Number: RC0603FR-071K5L; Arrow Price/Stock: https://www.arrow.com/en/products/rc0603fr-071k5l/yageo?region=europe
footprint RESC1608X55N
pins: 1, 2

## RC0603FR-071KL
designator R?
Resistor; Manufacturer_Name: YAGEO (PHYCOMP); Manufacturer_Part_Number: RC0603FR-071KL; Datasheet Link: https://datasheet.datasheetarchive.com/originals/distributors/Datasheets_SAMA/902f9e387b938f871d31120f5fc1d65e.pdf; Height: 0.55mm; Mouser Part Number: 603-RC0603FR-071KL; Mouser Price/Stock: https://www.mouser.co.uk/ProductDetail/YAGEO/RC0603FR-071KL?qs=VU8sRB4EgwApHsk4rF%2F3zg%3D%3D; Arrow Part Number: RC0603FR-071KL; Arrow Price/Stock: https://www.arrow.com/en/products/rc0603fr-071kl/yageo?region=europe
footprint RESC1608X55N
pins: 1, 2

## RC0603FR-076K49L
designator R?
Resistor; Manufacturer_Name: YAGEO (PHYCOMP); Manufacturer_Part_Number: RC0603FR-076K49L; Datasheet Link: https://datasheet.datasheetarchive.com/originals/distributors/Datasheets_SAMA/902f9e387b938f871d31120f5fc1d65e.pdf; Height: 0.55mm; Mouser Part Number: 603-RC0603FR-076K49L; Mouser Price/Stock: https://www.mouser.co.uk/ProductDetail/YAGEO/RC0603FR-076K49L?qs=2cAdsCoAWREySRbt8iGTvA%3D%3D; Arrow Part Number: RC0603FR-076K49L; Arrow Price/Stock: https://www.arrow.com/en/products/rc0603fr-076k49l/yageo?region=nac
footprint RESC1608X55N
pins: 1, 2

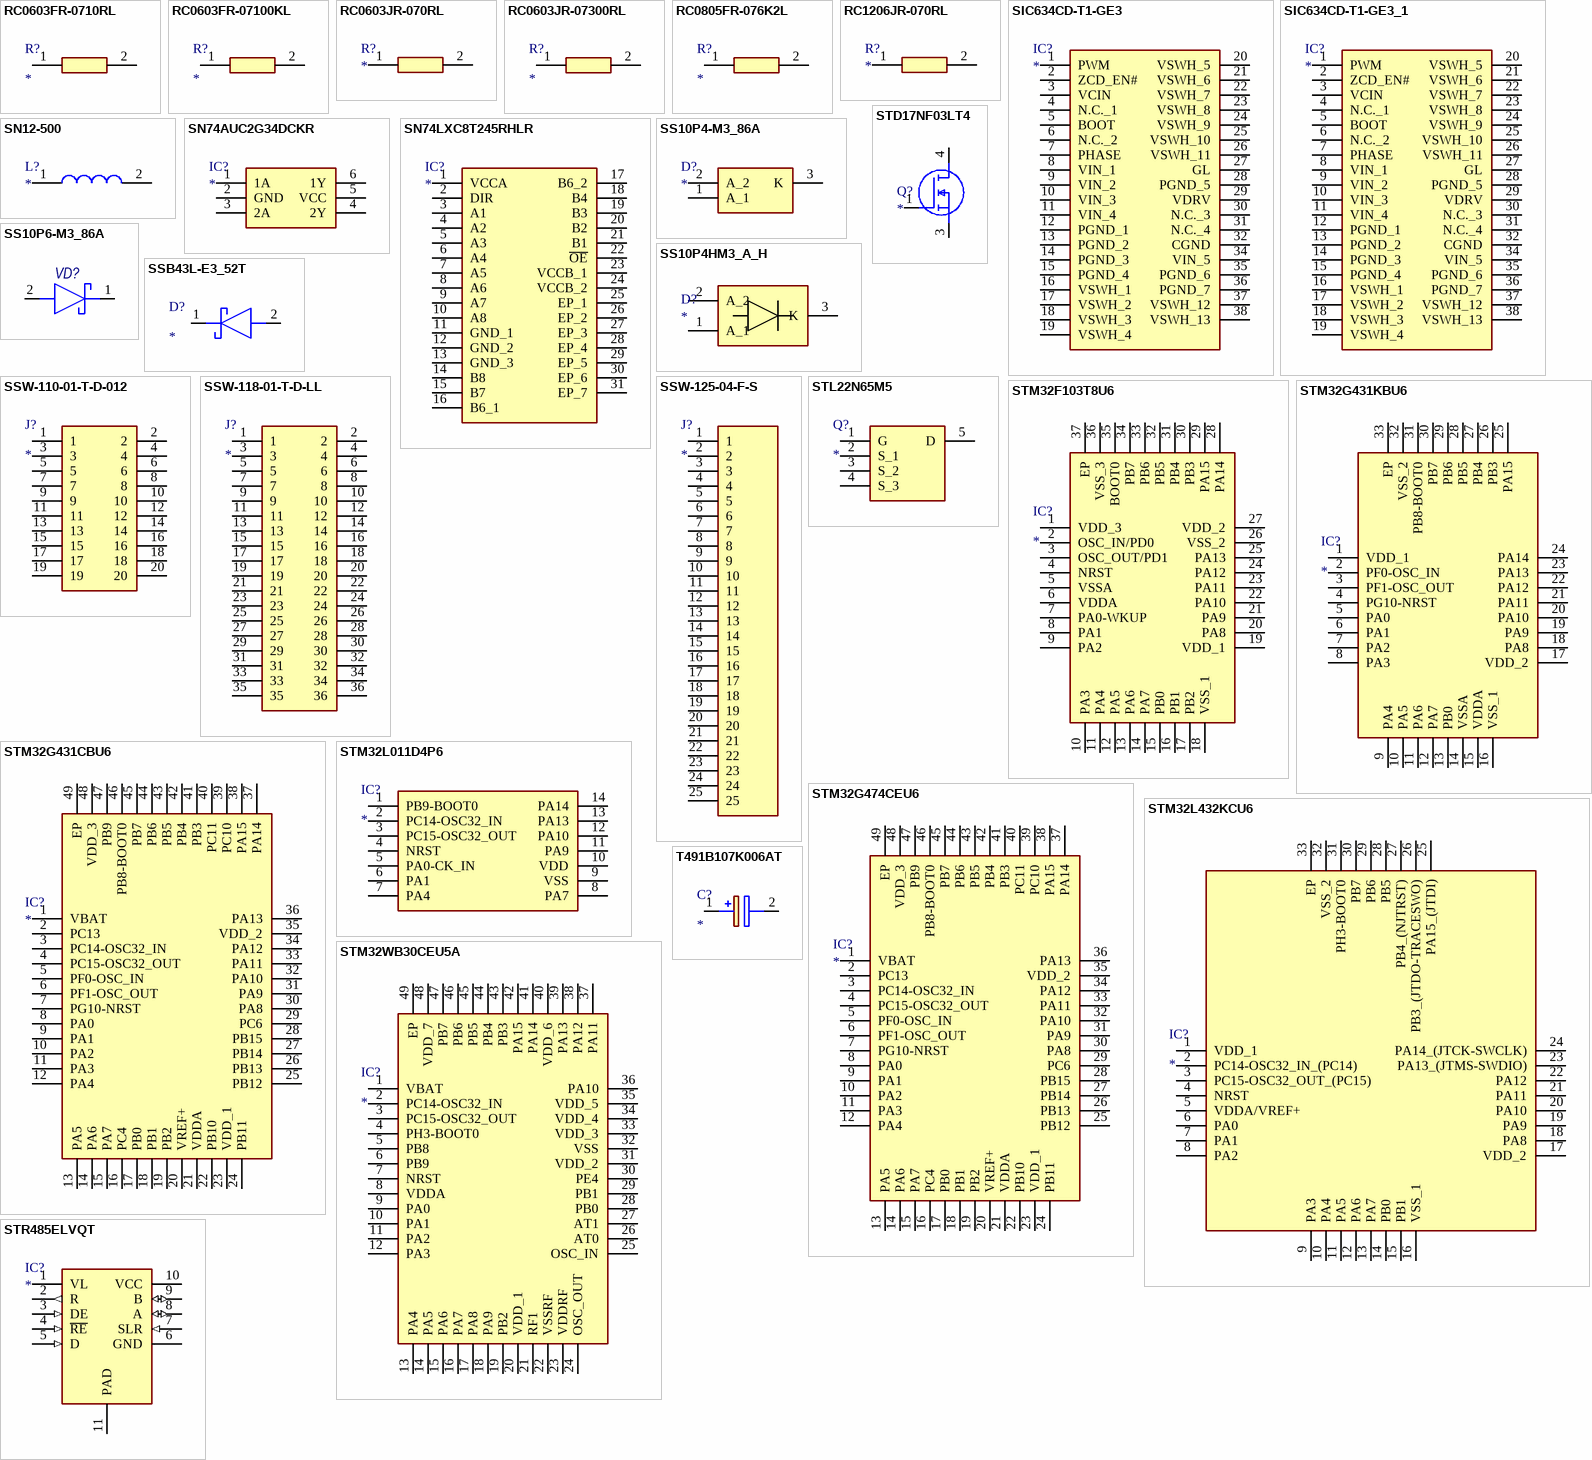
[diagram p4: symbols RC0603FR-0710RL to T491B107K006AT]

## RC0603FR-0710RL
designator R?
Resistor; Manufacturer_Name: YAGEO (PHYCOMP); Manufacturer_Part_Number: RC0603FR-0710RL; Datasheet Link: https://datasheet.datasheetarchive.com/originals/distributors/Datasheets_SAMA/902f9e387b938f871d31120f5fc1d65e.pdf; Height: 0.55mm; Mouser Part Number: 603-RC0603FR-0710RL; Mouser Price/Stock: https://www.mouser.co.uk/ProductDetail/YAGEO/RC0603FR-0710RL?qs=womCuNp6NjhtCUybQ%252B6d6w%3D%3D
footprint RESC1608X55N
pins: 1, 2

## RC0603FR-07100KL
designator R?
Resistor; Manufacturer_Name: YAGEO (PHYCOMP); Manufacturer_Part_Number: RC0603FR-07100KL; Datasheet Link: https://datasheet.datasheetarchive.com/originals/distributors/Datasheets_SAMA/902f9e387b938f871d31120f5fc1d65e.pdf; Height: 0.55mm; Mouser Part Number: 603-RC0603FR-07100KL; Mouser Price/Stock: https://www.mouser.co.uk/ProductDetail/YAGEO/RC0603FR-07100KL?qs=e1ok2LiJcmaihem8Va5%2Fsw%3D%3D; Arrow Part Number: RC0603FR-07100KL; Arrow Price/Stock: https://www.arrow.com/en/products/rc0603fr-07100kl/yageo?region=europe
footprint RESC1608X55N
pins: 1, 2

## RC0603JR-070RL
designator R?
Resistor; Manufacturer_Name: YAGEO (PHYCOMP); Manufacturer_Part_Number: RC0603JR-070RL; Datasheet Link: https://datasheet.datasheetarchive.com/originals/distributors/Datasheets_SAMA/902f9e387b938f871d31120f5fc1d65e.pdf; Height: 0.55mm; Mouser Part Number: 603-RC0603JR-070RL; Mouser Price/Stock: https://www.mouser.co.uk/ProductDetail/YAGEO/RC0603JR-070RL?qs=2cAdsCoAWRGWyPcuXgGiXQ%3D%3D
footprint RESC1608X55N
pins: 1, 2

## RC0603JR-07300RL
designator R?
Resistor; Manufacturer_Name: YAGEO (PHYCOMP); Manufacturer_Part_Number: RC0603JR-07300RL; Datasheet Link: https://datasheet.datasheetarchive.com/originals/distributors/Datasheets_SAMA/902f9e387b938f871d31120f5fc1d65e.pdf; Height: 0.55mm; Mouser Part Number: 603-RC0603JR-07300RL; Mouser Price/Stock: https://www.mouser.co.uk/ProductDetail/Yageo/RC0603JR-07300RL?qs=%2F9ZTgpVJnN6Vd5JDG6E6Sw%3D%3D; Arrow Part Number: RC0603JR-07300RL; Arrow Price/Stock: https://www.arrow.com/en/products/rc0603jr-07300rl/yageo
footprint RESC1608X55N
pins: 1, 2

## RC0805FR-076K2L
designator R?
Resistor; Manufacturer_Name: YAGEO (PHYCOMP); Manufacturer_Part_Number: RC0805FR-076K2L; Datasheet Link: https://datasheet.datasheetarchive.com/originals/distributors/Datasheets_SAMA/902f9e387b938f871d31120f5fc1d65e.pdf; Height: 0.6mm
footprint RESC2012X60N
pins: 1, 2

## RC1206JR-070RL
designator R?
Resistor; Manufacturer_Name: YAGEO (PHYCOMP); Manufacturer_Part_Number: RC1206JR-070RL; Datasheet Link: https://datasheet.datasheetarchive.com/originals/distributors/Datasheets_SAMA/902f9e387b938f871d31120f5fc1d65e.pdf; Height: 0.65mm; Mouser Part Number: 603-RC1206JR-070RL; Mouser Price/Stock: https://www.mouser.co.uk/ProductDetail/YAGEO/RC1206JR-070RL?qs=stZGH%252BcYwe4ZstaKNiOb8Q%3D%3D; Arrow Part Number: RC1206JR-070RL; Arrow Price/Stock: https://www.arrow.com/en/products/rc1206jr-070rl/yageo
footprint RESC3116X65N
pins: 1, 2

## SIC634CD-T1-GE3
designator IC?
Integrated Circuit; Manufacturer_Name: Vishay; Manufacturer_Part_Number: SIC634CD-T1-GE3; Datasheet Link: http://www.vishay.com/docs/76784/sic634.pdf; Height: 0.8mm; Mouser Part Number: 78-SIC634CD-T1-GE3; Mouser Price/Stock: https://www.mouser.co.uk/ProductDetail/Vishay-Semiconductors/SIC634CD-T1-GE3?qs=5aG0NVq1C4ySzpfRzdPOsQ%3D%3D
footprint SIC634CDT1GE3
pins: 1 PWM, 2 ZCD_EN#, 3 VCIN, 4 N.C._1, 5 BOOT, 6 N.C._2, 7 PHASE, 8 VIN_1, 9 VIN_2, 10 VIN_3, 11 VIN_4, 12 PGND_1, 13 PGND_2, 14 PGND_3, 15 PGND_4, 16 VSWH_1, 17 VSWH_2, 18 VSWH_3, 19 VSWH_4, 20 VSWH_5, 21 VSWH_6, 22 VSWH_7, 23 VSWH_8, 24 VSWH_9, 25 VSWH_10, 26 VSWH_11, 27 GL, 28 PGND_5, 29 VDRV, 30 N.C._3, 31 N.C._4, 32 CGND, 34 VIN_5, 35 PGND_6, 36 PGND_7, 37 VSWH_12, 38 VSWH_13

## SIC634CD-T1-GE3_1
designator IC?
Integrated Circuit; Manufacturer_Name: Vishay; Manufacturer_Part_Number: SIC634CD-T1-GE3; Datasheet Link: http://www.vishay.com/docs/76784/sic634.pdf; Height: 0.8mm; Mouser Part Number: 78-SIC634CD-T1-GE3; Mouser Price/Stock: https://www.mouser.co.uk/ProductDetail/Vishay-Semiconductors/SIC634CD-T1-GE3?qs=5aG0NVq1C4ySzpfRzdPOsQ%3D%3D
footprint SIC634CDT1GE3
pins: 1 PWM, 2 ZCD_EN#, 3 VCIN, 4 N.C._1, 5 BOOT, 6 N.C._2, 7 PHASE, 8 VIN_1, 9 VIN_2, 10 VIN_3, 11 VIN_4, 12 PGND_1, 13 PGND_2, 14 PGND_3, 15 PGND_4, 16 VSWH_1, 17 VSWH_2, 18 VSWH_3, 19 VSWH_4, 20 VSWH_5, 21 VSWH_6, 22 VSWH_7, 23 VSWH_8, 24 VSWH_9, 25 VSWH_10, 26 VSWH_11, 27 GL, 28 PGND_5, 29 VDRV, 30 N.C._3, 31 N.C._4, 32 CGND, 34 VIN_5, 35 PGND_6, 36 PGND_7, 37 VSWH_12, 38 VSWH_13

## SN12-500
designator L?
Inductor; Manufacturer_Name: KEMET; Manufacturer_Part_Number: SN12-500; Datasheet Link: https://content.kemet.com/datasheets/KEM_LF0057_SN.pdf; Height: 26mm; Mouser Part Number: 80-SN12-500; Mouser Price/Stock: https://www.mouser.co.uk/ProductDetail/KEMET/SN12-500?qs=pfd5qewlna775F1D2J%2FrPg%3D%3D; Arrow Part Number: SN12-500; Arrow Price/Stock: https://www.arrow.com/en/products/sn12-500/kemet-corporation
footprint SN12500
pins: 1, 2

## SN74AUC2G34DCKR
designator IC?
Integrated Circuit; Manufacturer_Name: Texas Instruments; Manufacturer_Part_Number: SN74AUC2G34DCKR; Datasheet Link: http://www.ti.com/lit/gpn/sn74auc2g34; Height: 1.1mm; Mouser Part Number: 595-SN74AUC2G34DCKR; Mouser Price/Stock: https://www.mouser.co.uk/ProductDetail/Texas-Instruments/SN74AUC2G34DCKR/?qs=eXyjQBh9UFgQTj9or1uGJA%3D%3D; Arrow Part Number: SN74AUC2G34DCKR; Arrow Price/Stock: https://www.arrow.com/en/products/sn74auc2g34dckr/texas-instruments
footprint SOT65P210X110-6N
pins: 1 1A, 2 GND, 3 2A, 4 2Y, 5 VCC, 6 1Y

## SN74LXC8T245RHLR
designator IC?
Integrated Circuit; Manufacturer_Name: Texas Instruments; Manufacturer_Part_Number: SN74LXC8T245RHLR; Datasheet Link: https://www.ti.com/lit/gpn/sn74lxc8t245; Height: 1mm; Mouser Part Number: 595-SN74LXC8T245RHLR; Mouser Price/Stock: https://www.mouser.co.uk/ProductDetail/Texas-Instruments/SN74LXC8T245RHLR?qs=KUoIvG%2F9IlZ%2FW98xFN1%2FVQ%3D%3D; Arrow Part Number: SN74LXC8T245RHLR; Arrow Price/Stock: https://www.arrow.com/en/products/sn74lxc8t245rhlr/texas-instruments?region=nac
footprint SN74LXC8T245RHLR
pins: 1 VCCA, 2 DIR, 3 A1, 4 A2, 5 A3, 6 A4, 7 A5, 8 A6, 9 A7, 10 A8, 11 GND_1, 12 GND_2, 13 GND_3, 14 B8, 15 B7, 16 B6_1, 17 B6_2, 18 B4, 19 B3, 20 B2, 21 B1, 22 ~{OE}, 23 VCCB_1, 24 VCCB_2, 25 EP_1, 26 EP_2, 27 EP_3, 28 EP_4, 29 EP_5, 30 EP_6, 31 EP_7

## SS10P4-M3_86A
designator D?
Schottky Diode; Manufacturer_Name: Vishay; Manufacturer_Part_Number: SS10P4-M3/86A; Datasheet Link: https://www.mouser.com/datasheet/2/427/ss10p4-85444.pdf; Height: 1.2mm; Mouser Part Number: 625-SS10P4-M3; Mouser Price/Stock: https://www.mouser.co.uk/ProductDetail/Vishay-General-Semiconductor/SS10P4-M3-86A?qs=XGzIaZb%2FFYJ4UNnrfztpnw%3D%3D; Arrow Part Number: SS10P4-M3/86A; Arrow Price/Stock: https://www.arrow.com/en/products/ss10p4-m386a/vishay
footprint V10PN50M387A
pins: 1 A_1, 2 A_2, 3 K

## SS10P4HM3_A_H
designator D?
Diode; Manufacturer_Name: Vishay; Manufacturer_Part_Number: SS10P4HM3_A/H; Datasheet Link: https://www.vishay.com/docs/88983/ss10p4.pdf; Height: 1.2mm; Mouser Part Number: 78-SS10P4HM3_A/H; Mouser Price/Stock: https://www.mouser.com/Search/Refine.aspx?Keyword=78-SS10P4HM3_A%2FH; Arrow Part Number: SS10P4HM3_A/H; Arrow Price/Stock: https://www.arrow.com/en/products/ss10p4hm3-ah/vishay
footprint V10PN50M387A
pins: 1 A_1, 2 A_2, 3 K

## SS10P6-M3_86A
designator VD?  (value not drawn)
Schottky Diode; Manufacturer_Name: Vishay; Manufacturer_Part_Number: SS10P6-M3/86A; Datasheet Link: http://www.vishay.com/docs/89043/ss10p6.pdf; Height: 1.2mm; Mouser Part Number: 625-SS10P6-M3; Mouser Price/Stock: https://www.mouser.co.uk/ProductDetail/Vishay-General-Semiconductor/SS10P6-M3-86A?qs=4WjKNJoURz7d81pWuWlmzg%3D%3D; Arrow Part Number: SS10P6-M3/86A; Arrow Price/Stock: https://www.arrow.com/en/products/ss10p6-m386a/vishay?region=nac
footprint SS10P6M386A
pins: 1 K, 2 A

## SSB43L-E3_52T
designator D?
Schottky Diode; Manufacturer_Name: Vishay; Manufacturer_Part_Number: SSB43L-E3/52T; Datasheet Link: https://componentsearchengine.com/Datasheets/2/SSB43L-E3_52T.pdf; Height: 2.44mm; Mouser Part Number: 625-SSB43L-E3; Mouser Price/Stock: https://www.mouser.co.uk/ProductDetail/Vishay-General-Semiconductor/SSB43L-E3-52T?qs=x2jpVgRnAtN%252BZmsb%252BlLseQ%3D%3D; Arrow Part Number: SSB43L-E3/52T; Arrow Price/Stock: https://www.arrow.com/en/products/ssb43l-e352t/vishay
footprint DIOM5436X244N
pins: 1 K, 2 A

## SSW-110-01-T-D-012
designator J?
Connector; Manufacturer_Name: SAMTEC; Manufacturer_Part_Number: SSW-110-01-T-D-012; Datasheet Link: https://componentsearchengine.com/Datasheets/1/SSW-110-01-T-D-012.pdf; Height: 8.51mm; Mouser Part Number: 200-SSW11001TD012; Mouser Price/Stock: https://www.mouser.co.uk/ProductDetail/Samtec/SSW-110-01-T-D-012?qs=rU5fayqh%252BE3ByE6sPJsQhQ%3D%3D; Arrow Part Number: SSW-110-01-T-D-012; Arrow Price/Stock: https://www.arrow.com/en/products/ssw-110-01-t-d-012/samtec
footprint RHDR20W79P254_2X10_2591X495X851P
pins: 1, 2, 3, 4, 5, 6, 7, 8, 9, 10, 11, 12, 13, 14, 15, 16, 17, 18, 19, 20

## SSW-118-01-T-D-LL
designator J?
Connector; Manufacturer_Name: SAMTEC; Manufacturer_Part_Number: SSW-118-01-T-D-LL; Datasheet Link: http://suddendocs.samtec.com/prints/ssw-1xx-xx-xxx-x-xx-xxx-xx-mkt.pdf; Height: 8.51mm; Mouser Part Number: 200-SSW11801TDLL; Mouser Price/Stock: https://www.mouser.com/Search/Refine.aspx?Keyword=200-SSW11801TDLL
footprint RHDR36W79P254X254_2X18_4623X495X851P
pins: 1, 2, 3, 4, 5, 6, 7, 8, 9, 10, 11, 12, 13, 14, 15, 16, 17, 18, 19, 20, 21, 22, 23, 24, 25, 26, 27, 28, 29, 30, 31, 32, 33, 34, 35, 36

## SSW-125-04-F-S
designator J?
Connector; Manufacturer_Name: SAMTEC; Manufacturer_Part_Number: SSW-125-04-F-S; Datasheet Link: http://suddendocs.samtec.com/prints/ssw-1xx-xx-xxx-x-xx-xxx-xx-mkt.pdf
footprint SSW-125-XX-YYY-S
pins: 1, 2, 3, 4, 5, 6, 7, 8, 9, 10, 11, 12, 13, 14, 15, 16, 17, 18, 19, 20, 21, 22, 23, 24, 25

## STD17NF03LT4
designator Q?
Transistor; Manufacturer_Name: STMicroelectronics; Manufacturer_Part_Number: STD17NF03LT4; Datasheet Link: http://www.st.com/web/en/resource/technical/document/datasheet/CD00002145.pdf; Height: 2.4mm; Mouser Part Number: 511-STD17NF03L; Mouser Price/Stock: https://www.mouser.co.uk/ProductDetail/STMicroelectronics/STD17NF03LT4/?qs=%252BvXUvI433o8IPTvSWDetKQ%3D%3D; Arrow Part Number: STD17NF03LT4; Arrow Price/Stock: https://www.arrow.com/en/products/std17nf03lt4/stmicroelectronics
footprint TO228P972X240-3N
pins: 1 G, 3 D, 4 D

## STL22N65M5
designator Q?
MOSFET (N-Channel); Manufacturer_Name: STMicroelectronics; Manufacturer_Part_Number: STL22N65M5; Datasheet Link: http://www.st.com/content/ccc/resource/technical/document/datasheet/14/85/4c/6e/ff/cd/4c/c1/DM00062074.pdf/files/DM00062074.pdf/jcr:content/translations/en.DM00062074.pdf; Height: 1mm; Mouser Part Number: 511-STL22N65M5; Mouser Price/Stock: https://www.mouser.co.uk/ProductDetail/STMicroelectronics/STL22N65M5?qs=xIpY4gsFVQF7st94jAirGg%3D%3D; Arrow Part Number: STL22N65M5; Arrow Price/Stock: https://www.arrow.com/en/products/stl22n65m5/stmicroelectronics
footprint STL22N65M5
pins: 1 G, 2 S_1, 3 S_2, 4 S_3, 5 D

## STM32F103T8U6
designator IC?
Integrated Circuit; Manufacturer_Name: STMicroelectronics; Manufacturer_Part_Number: STM32F103T8U6; Datasheet Link: http://www.st.com/st-web-ui/static/active/en/resource/technical/document/datasheet/CD00161566.pdf; Height: 1mm; Mouser Part Number: 511-STM32F103T8U6; Mouser Price/Stock: https://www.mouser.co.uk/ProductDetail/STMicroelectronics/STM32F103T8U6?qs=TaOZSEYtRiWNjawIhjImDQ%3D%3D; Arrow Part Number: STM32F103T8U6; Arrow Price/Stock: https://www.arrow.com/en/products/stm32f103t8u6/stmicroelectronics
footprint QFN50P600X600X100-37N-D
pins: 1 VDD_3, 2 OSC_IN/PD0, 3 OSC_OUT/PD1, 4 NRST, 5 VSSA, 6 VDDA, 7 PA0-WKUP, 8 PA1, 9 PA2, 10 PA3, 11 PA4, 12 PA5, 13 PA6, 14 PA7, 15 PB0, 16 PB1, 17 PB2, 18 VSS_1, 19 VDD_1, 20 PA8, 21 PA9, 22 PA10, 23 PA11, 24 PA12, 25 PA13, 26 VSS_2, 27 VDD_2, 28 PA14, 29 PA15, 30 PB3, 31 PB4, 32 PB5, 33 PB6, 34 PB7, 35 BOOT0, 36 VSS_3, 37 EP

## STM32G431CBU6
designator IC?
Integrated Circuit; Manufacturer_Name: STMicroelectronics; Manufacturer_Part_Number: STM32G431CBU6; Datasheet Link: https://www.st.com/resource/en/datasheet/stm32g431cb.pdf; Height: 0.65mm; Mouser Part Number: 511-STM32G431CBU6; Mouser Price/Stock: https://www.mouser.co.uk/ProductDetail/STMicroelectronics/STM32G431CBU6?qs=T3oQrply3y%252B0hTuSHQ7oqA%3D%3D; Arrow Part Number: STM32G431CBU6; Arrow Price/Stock: https://www.arrow.com/en/products/stm32g431cbu6/stmicroelectronics?region=nac
footprint QFN50P700X700X65-49N-D
pins: 1 VBAT, 2 PC13, 3 PC14-OSC32_IN, 4 PC15-OSC32_OUT, 5 PF0-OSC_IN, 6 PF1-OSC_OUT, 7 PG10-NRST, 8 PA0, 9 PA1, 10 PA2, 11 PA3, 12 PA4, 13 PA5, 14 PA6, 15 PA7, 16 PC4, 17 PB0, 18 PB1, 19 PB2, 20 VREF+, 21 VDDA, 22 PB10, 23 VDD_1, 24 PB11, 25 PB12, 26 PB13, 27 PB14, 28 PB15, 29 PC6, 30 PA8, 31 PA9, 32 PA10, 33 PA11, 34 PA12, 35 VDD_2, 36 PA13, 37 PA14, 38 PA15, 39 PC10, 40 PC11, 41 PB3, 42 PB4, 43 PB5, 44 PB6, 45 PB7, 46 PB8-BOOT0, 47 PB9, 48 VDD_3, 49 EP

## STM32G431KBU6
designator IC?
Integrated Circuit; Manufacturer_Name: STMicroelectronics; Manufacturer_Part_Number: STM32G431KBU6; Datasheet Link: https://www.st.com/resource/en/datasheet/stm32g431kb.pdf; Height: 0.6mm; Mouser Part Number: 511-STM32G431KBU6; Mouser Price/Stock: https://www.mouser.co.uk/ProductDetail/STMicroelectronics/STM32G431KBU6?qs=T3oQrply3y%2Frk9w4R%2FCLxg%3D%3D; Arrow Part Number: STM32G431KBU6; Arrow Price/Stock: https://www.arrow.com/en/products/stm32g431kbu6/stmicroelectronics?region=nac
footprint QFN50P500X500X60-33N-D
pins: 1 VDD_1, 2 PF0-OSC_IN, 3 PF1-OSC_OUT, 4 PG10-NRST, 5 PA0, 6 PA1, 7 PA2, 8 PA3, 9 PA4, 10 PA5, 11 PA6, 12 PA7, 13 PB0, 14 VSSA, 15 VDDA, 16 VSS_1, 17 VDD_2, 18 PA8, 19 PA9, 20 PA10, 21 PA11, 22 PA12, 23 PA13, 24 PA14, 25 PA15, 26 PB3, 27 PB4, 28 PB5, 29 PB6, 30 PB7, 31 PB8-BOOT0, 32 VSS_2, 33 EP

## STM32G474CEU6
designator IC?
Integrated Circuit; Manufacturer_Name: STMicroelectronics; Manufacturer_Part_Number: STM32G474CEU6; Datasheet Link: https://www.st.com/resource/en/datasheet/stm32g474ce.pdf; Height: 0.6mm; Mouser Part Number: 511-STM32G474CEU6; Mouser Price/Stock: https://www.mouser.co.uk/ProductDetail/STMicroelectronics/STM32G474CEU6?qs=PzGy0jfpSMvczLLzMNbcpg%3D%3D; Arrow Part Number: STM32G474CEU6; Arrow Price/Stock: https://www.arrow.com/en/products/stm32g474ceu6/stmicroelectronics?region=nac
footprint QFN50P700X700X60-49N-D
pins: 1 VBAT, 2 PC13, 3 PC14-OSC32_IN, 4 PC15-OSC32_OUT, 5 PF0-OSC_IN, 6 PF1-OSC_OUT, 7 PG10-NRST, 8 PA0, 9 PA1, 10 PA2, 11 PA3, 12 PA4, 13 PA5, 14 PA6, 15 PA7, 16 PC4, 17 PB0, 18 PB1, 19 PB2, 20 VREF+, 21 VDDA, 22 PB10, 23 VDD_1, 24 PB11, 25 PB12, 26 PB13, 27 PB14, 28 PB15, 29 PC6, 30 PA8, 31 PA9, 32 PA10, 33 PA11, 34 PA12, 35 VDD_2, 36 PA13, 37 PA14, 38 PA15, 39 PC10, 40 PC11, 41 PB3, 42 PB4, 43 PB5, 44 PB6, 45 PB7, 46 PB8-BOOT0, 47 PB9, 48 VDD_3, 49 EP

## STM32L011D4P6
designator IC?
Integrated Circuit; Manufacturer_Name: STMicroelectronics; Manufacturer_Part_Number: STM32L011D4P6; Datasheet Link: http://www.mouser.com/ds/2/389/stm32l011d4-956266.pdf; Height: 1.2mm; Mouser Part Number: 511-STM32L011D4P6; Mouser Price/Stock: https://www.mouser.co.uk/ProductDetail/STMicroelectronics/STM32L011D4P6?qs=dTJS0cRn7oiO1CQcjKE%2FiQ%3D%3D; Arrow Part Number: STM32L011D4P6; Arrow Price/Stock: https://www.arrow.com/en/products/stm32l011d4p6/stmicroelectronics?region=nac
footprint SOP65P640X120-14N
pins: 1 PB9-BOOT0, 2 PC14-OSC32_IN, 3 PC15-OSC32_OUT, 4 NRST, 5 PA0-CK_IN, 6 PA1, 7 PA4, 8 PA7, 9 VSS, 10 VDD, 11 PA9, 12 PA10, 13 PA13, 14 PA14

## STM32L432KCU6
designator IC?
Integrated Circuit; Manufacturer_Name: STMicroelectronics; Manufacturer_Part_Number: STM32L432KCU6; Datasheet Link: http://www.st.com/content/ccc/resource/technical/document/datasheet/24/01/9f/59/f0/83/47/fc/DM00257205.pdf/files/DM00257205.pdf/jcr:content/translations/en.DM00257205.pdf; Height: 0.6mm; Mouser Part Number: 511-STM32L432KCU6; Mouser Price/Stock: https://www.mouser.co.uk/ProductDetail/STMicroelectronics/STM32L432KCU6?qs=dTJS0cRn7oiybcTRwI97Tw%3D%3D; Arrow Part Number: STM32L432KCU6; Arrow Price/Stock: https://www.arrow.com/en/products/stm32l432kcu6/stmicroelectronics?region=nac
footprint QFN50P500X500X60-33N-D
pins: 1 VDD_1 (power), 2 PC14-OSC32_IN_(PC14), 3 PC15-OSC32_OUT_(PC15), 4 NRST, 5 VDDA/VREF+ (power), 6 PA0, 7 PA1, 8 PA2, 9 PA3, 10 PA4, 11 PA5, 12 PA6, 13 PA7, 14 PB0, 15 PB1, 16 VSS_1 (power), 17 VDD_2 (power), 18 PA8, 19 PA9, 20 PA10, 21 PA11, 22 PA12, 23 PA13_(JTMS-SWDIO), 24 PA14_(JTCK-SWCLK), 25 PA15_(JTDI), 26 PB3_(JTDO-TRACESWO), 27 PB4_(NJTRST), 28 PB5, 29 PB6, 30 PB7, 31 PH3-BOOT0, 32 VSS_2 (power), 33 EP